# Altium footprint library USB.PcbLib: 1 footprints
Each footprint in its own frame and in the unit in brackets; x right, y up, seen from the top. Pads: shape width x height; smd on the part's side, far side on the other; paste and mask are expansions set on the pad; w line width, h text height; cw(c..) or ccw(c..) is an arc to the next point about the centre after c.
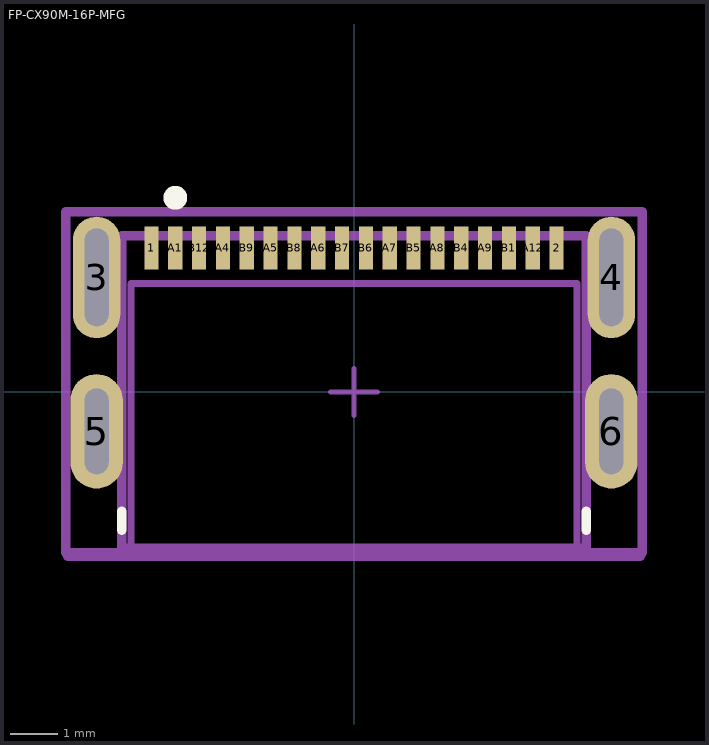
[diagram p0: the footprint, top view; thin cyan lines are the x and y axes]

## FP-CX90M-16P-MFG [mm]
pads (22):
  rect 0.3x0.9 smd paste+0 mask+0: 1(-4.25,3.025) 2(4.25,3.025) A1(-3.75,3.025) A4(-2.75,3.025) A5(-1.75,3.025) A6(-0.75,3.025) A7(0.75,3.025) A8(1.75,3.025) A9(2.75,3.025) A12(3.75,3.025) B1(3.25,3.025) B4(2.25,3.025) B5(1.25,3.025) B6(0.25,3.025) B7(-0.25,3.025) B8(-1.25,3.025) B9(-2.25,3.025) B12(-3.25,3.025)
  rrect100% 1x2.55 hole 2.05 slot 0.5 at 0 deg paste-2539.97 mask+0: 3(-5.4,2.405) 4(5.4,2.405)
  rrect100% 1.1x2.4 hole 1.8 slot 0.5 at 0 deg paste-2539.97 mask+0: 5(-5.4,-0.825) 6(5.4,-0.825)
Top Overlay:
  circle w0.25: c-3.75,4.075 r0.125
  lines w0.2: -4.87,-2.9 -4.87,-2.5 ; 4.87,-2.9 4.87,-2.5
Board Outline:
  lines w0.15: -4.675,-3.445 -4.675,2.275 4.675,2.275 4.675,-3.445
Top Assembly:
  lines w0.2: -6.05,-3.375 -6.05,3.78 6.05,3.78 6.05,-3.375 -6.05,-3.375
  text ".Designator" at 0,0.202 h1
Top 3D Body:
  lines w0.2: -6,-3.445 6,-3.445 ; -4.87,-3.275 -4.87,3.275 4.87,3.275 4.87,-3.275 -4.87,-3.275
Top Courtyard:
  lines w0.2: -6.05,-3.375 -6.05,3.78 6.05,3.78 6.05,-3.375 -6.05,-3.375
Top Component Center:
  lines w0.1: -0.5,0 0.5,0 ; 0,-0.5 0,0.5
3D body "Conn_Hirose_CX90M-16P_eec.STEP": height 0.25, standoff 0, extent -6.05,-3.375 6.05,3.78